# EAGLE library part SHOP_ESP (library ElcPartsLibrary)
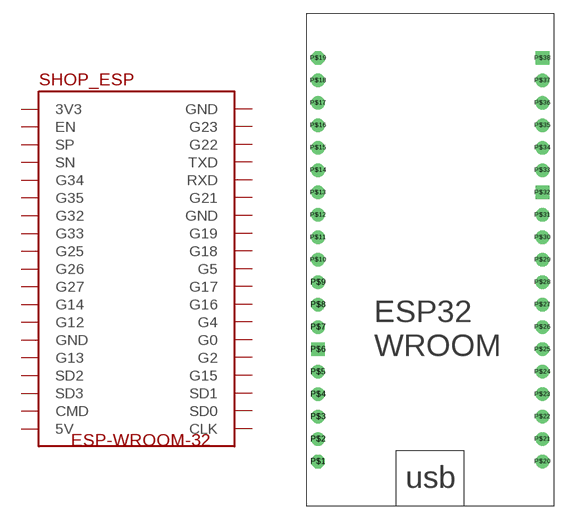
[diagram p0: symbol with the pads of ESP32-WROOM-32; footprint ESP32-WROOM-32]

Designator prefix -

## SHOP_ESP  [ESP32-WROOM-32]
P$1  5V  pwr
P$2  CMD  pwr
P$3  SD3
P$4  SD2
P$5  G13
P$6  GND
P$7  G12
P$8  G14
P$9  G27
P$10  G26
P$11  G25
P$12  G33
P$13  G32
P$14  G35
P$15  G34
P$16  SN
P$17  SP
P$18  EN
P$19  3V3  pwr
P$20  CLK
P$21  SD0
P$22  SD1
P$23  G15
P$24  G2
P$25  G0
P$26  G4
P$27  G16
P$28  G17
P$29  G5
P$30  G18
P$31  G19
P$32  GND
P$33  G21
P$34  RXD
P$35  TXD
P$36  G22
P$37  G23
P$38  GND

## Footprint ESP32-WROOM-32 (pad centres in mm)
drill 1.016 octagon: P$1 1.27,5.08; P$19 1.27,50.8
drill 1.016: P$2 1.27,7.62; P$3 1.27,10.16; P$4 1.27,12.7; P$5 1.27,15.24; P$7 1.27,20.32; P$8 1.27,22.86; P$9 1.27,25.4; P$10 1.27,27.94; P$11 1.27,30.48; P$12 1.27,33.02; P$13 1.27,35.56; P$14 1.27,38.1; P$15 1.27,40.64; P$16 1.27,43.18; P$17 1.27,45.72; P$18 1.27,48.26; P$20 26.67,5.08; P$21 26.67,7.62; P$22 26.67,10.16; P$23 26.67,12.7; P$24 26.67,15.24; P$25 26.67,17.78; P$26 26.67,20.32; P$27 26.67,22.86; P$28 26.67,25.4; P$29 26.67,27.94; P$30 26.67,30.48; P$31 26.67,33.02; P$33 26.67,38.1; P$34 26.67,40.64; P$35 26.67,43.18; P$36 26.67,45.72; P$37 26.67,48.26
drill 1.016 square: P$6 1.27,17.78; P$32 26.67,35.56; P$38 26.67,50.8